# Altium footprint library EMI_FILTER.PcbLib: 28 footprints (part 2 of 2)
Each footprint in its own frame and in the unit in brackets; x right, y up, seen from the top. Pads: shape width x height; smd on the part's side, far side on the other; paste and mask are expansions set on the pad; w line width, h text height; cw(c..) or ccw(c..) is an arc to the next point about the centre after c.
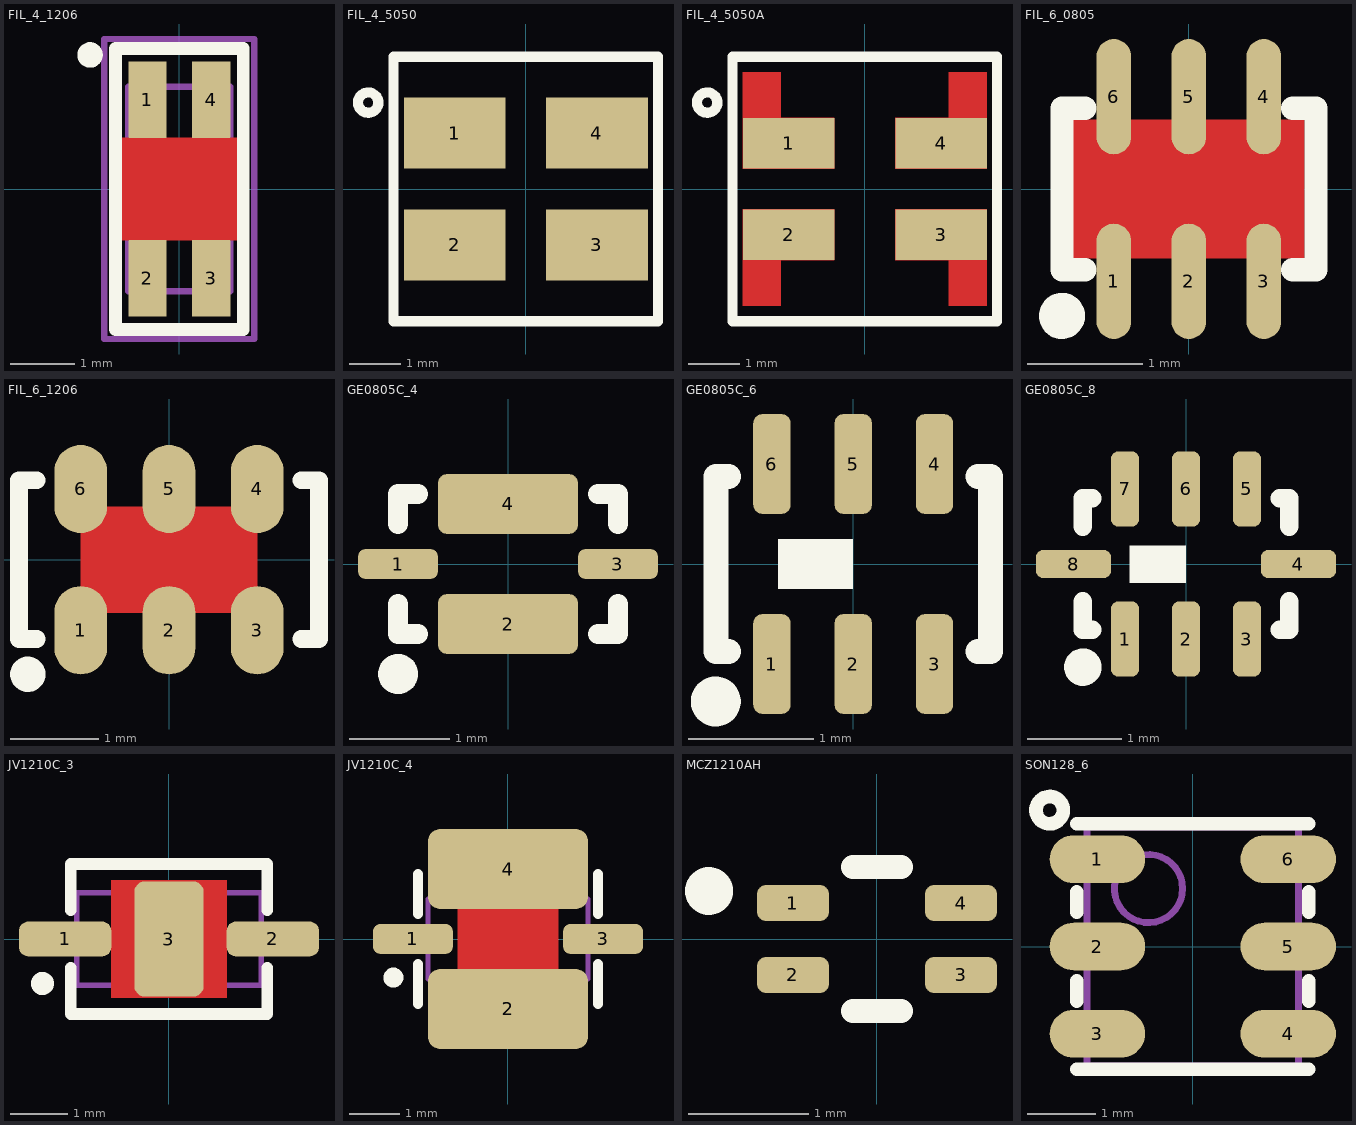
[diagram p1: the footprints below, top view; thin cyan lines are the x and y axes]

## FIL_4_1206 [mm] "transformer LINE FILTER, 4-Leads, Body 3.2x1.6mm"
height 2
pads (4):
  rect 0.6x1.2 smd: 1(-0.5,1.4) 2(-0.5,-1.4) 3(0.5,-1.4) 4(0.5,1.4)
Top Layer:
  pour cut-out: 1,0.8 -1,0.8 -1,-0.8 1,-0.8
Top Overlay:
  circle w0.2: c-1.4,2.1 r0.1
  lines w0.2: -1,-2.2 1,-2.2 1,2.2 -1,2.2 -1,-2.2
Mechanical 13:
  lines w0.1: -0.8,-1.6 -0.8,1.6 0.8,1.6 0.8,-1.6 -0.8,-1.6
Mechanical 15:
  lines w0.1: -0.5,0 0.5,0 ; 0,-0.5 0,0.5 ; -1.175,-2.35 -1.175,2.35 1.175,2.35 1.175,-2.35 -1.175,-2.35
3D body: height 2, standoff 0, extent -0.8,-1.6 0.8,1.6

## FIL_4_5050 [mm] "EMI filter Murata, DLW5x, 5x5mm"
height 2.8
pads (4):
  rect 2x1.4 smd: 1(-1.4,1.1) 2(-1.4,-1.1) 3(1.4,-1.1) 4(1.4,1.1)
Top Overlay:
  circle w0.2: c-3.1,1.7 r0.2
  lines w0.2: -2.6,-2.6 2.6,-2.6 2.6,2.6 -2.6,2.6 -2.6,-2.6
3D body "DLW5BTM251TQ2B--3DModel-STEP-1.STEP": height 2.5, standoff 0, extent -2.5,-2.5 2.5,2.5

## FIL_4_5050A [mm] "EMI filter Murata, DLW5x, 5x5mm"
height 2.8
pads (4):
  rect 1.8x1 smd: 1(-1.5,0.9) 2(-1.5,-0.9) 3(1.5,-0.9) 4(1.5,0.9)
Top Layer:
  region: -2.4,-0.4 -2.4,-2.3 -1.65,-2.3 -1.65,-1.4 -0.6,-1.4 -0.6,-0.4
  region: 2.4,-0.4 2.4,-2.3 1.65,-2.3 1.65,-1.4 0.6,-1.4 0.6,-0.4
  region: 2.4,0.4 2.4,2.3 1.65,2.3 1.65,1.4 0.6,1.4 0.6,0.4
  region: -2.4,0.4 -2.4,2.3 -1.65,2.3 -1.65,1.4 -0.6,1.4 -0.6,0.4
Top Overlay:
  circle w0.2: c-3.1,1.7 r0.2
  lines w0.2: -2.6,-2.6 2.6,-2.6 2.6,2.6 -2.6,2.6 -2.6,-2.6
3D body "DLW5BTM251TQ2B--3DModel-STEP-1.STEP": height 2.5, standoff 0, extent -2.5,-2.5 2.5,2.5

## FIL_6_0805 [mm] "Ceramic Chip Balun, 0805, 6-Lead"
height 2
pads (6):
  oval 0.3x1 smd mask+0.075: 1(-0.65,-0.8) 2(0,-0.8) 3(0.65,-0.8) 4(0.65,0.8) 5(0,0.8) 6(-0.65,0.8)
Top Layer:
  pour cut-out: -1,0.6 1,0.6 1,-0.6 -1,-0.6
Top Overlay:
  circle w0.2: c-1.1,-1.1 r0.1
  lines w0.2: -0.9,-0.7 -1.1,-0.7 -1.1,0.7 -0.9,0.7 ; 0.9,-0.7 1.1,-0.7 1.1,0.7 0.9,0.7
3D body: height 1.05, standoff 1, extent -0.8,-0.175 -0.5,0.175
3D body: height 1.05, standoff 0, extent -0.8,0.35 -0.5,0.65
3D body: height 1.05, standoff 0, extent -0.15,0.35 0.15,0.65
3D body: height 1.05, standoff 0, extent 0.5,0.35 0.8,0.65
3D body: height 1.05, standoff 0, extent 0.5,-0.65 0.8,-0.35
3D body: height 1.05, standoff 0, extent -0.15,-0.65 0.15,-0.35
3D body: height 1, standoff 0.05, extent -1,-0.625 1,0.625
3D body: height 1.05, standoff 0, extent -0.8,-0.65 -0.5,-0.35

## FIL_6_1206 [mm] "Ceramic Chip Balun, 0805, 6-Lead"
height 2
pads (6):
  oval 0.6x1 smd paste-0.05 mask+0.075: 1(-1,-0.8) 2(0,-0.8) 3(1,-0.8) 4(1,0.8) 5(0,0.8) 6(-1,0.8)
Top Layer:
  pour cut-out: -1,0.6 1,0.6 1,-0.6 -1,-0.6
Top Overlay:
  circle w0.2: c-1.6,-1.3 r0.1
  lines w0.2: -1.5,-0.9 -1.7,-0.9 -1.7,0.9 -1.5,0.9 ; 1.5,-0.9 1.7,-0.9 1.7,0.9 1.5,0.9
3D body "User Library-FV1206-1.step": height 0.92, standoff -0.03, extent -1.6,-0.83 1.6,0.83

## GE0805C_4 [mm] "GE0805C-3, GE0805C-5, 2x1.25x0.95mm, 0.65mm pitch"
height 0.95
pads (4):
  rrect50% 0.8x0.3 smd mask+0.05: 1(-1.1,0) 3(1.1,0)
  rrect30% 1.4x0.6 smd mask+0.05: 2(0,-0.6) 4(0,0.6)
Top Overlay:
  circle w0.2: c-1.1,-1.1 r0.1
  lines w0.2: -1.1,-0.4 -1.1,-0.7 -0.9,-0.7 ; -1.1,0.4 -1.1,0.7 -0.9,0.7 ; 0.9,-0.7 1.1,-0.7 1.1,-0.4 ; 0.9,0.7 1.1,0.7 1.1,0.4
3D body "GE0805C-3_MNC.step": height 1.04, standoff 0, extent -1.003,-0.622 1.003,0.622

## GE0805C_6 [mm] "GE0805C-1, GE0805C-9, 2x1.25x0.95mm, 0.65mm pitch"
height 0.95
pads (6):
  rrect50% 0.3x0.8 smd mask+0.05: 1(-0.65,-0.8) 2(0,-0.8) 3(0.65,-0.8) 4(0.65,0.8) 5(0,0.8) 6(-0.65,0.8)
Top Overlay:
  circle w0.2: c-1.1,-1.1 r0.1
  rectangle: -0.6,-0.2 0,0.2
  lines w0.2: -1,-0.7 -1.1,-0.7 -1.1,0.7 -1,0.7 ; 1,-0.7 1.1,-0.7 1.1,0.7 1,0.7
3D body "User Library-GE0805C-2.step": height 0.94, standoff -0.01, extent -1.015,-0.64 1.015,0.64

## GE0805C_8 [mm] "GE0805C-2, GE0805C-4, GE0805C-15, 2x1.25x0.95mm, 0.65mm pitch"
height 0.95
pads (8):
  rrect50% 0.3x0.8 smd mask+0.05: 1(-0.65,-0.8) 2(0,-0.8) 3(0.65,-0.8) 5(0.65,0.8) 6(0,0.8) 7(-0.65,0.8)
  rrect50% 0.8x0.3 smd mask+0.05: 4(1.2,0) 8(-1.2,0)
Top Overlay:
  circle w0.2: c-1.1,-1.1 r0.1
  rectangle: -0.6,-0.2 0,0.2
  lines w0.2: -1.1,-0.4 -1.1,-0.7 -1,-0.7 ; -1.1,0.4 -1.1,0.7 -1,0.7 ; 1,-0.7 1.1,-0.7 1.1,-0.4 ; 1,0.7 1.1,0.7 1.1,0.4
3D body "User Library-GE0805C-2.step": height 0.94, standoff -0.01, extent -1.015,-0.64 1.015,0.64

## JV1210C_3 [mm] "JV1210C, 3.2x2.5x1.5mm"
height 2
pads (3):
  rrect50% 1.6x0.6 smd paste-0.1 mask+0.075: 1(-1.8,0) 2(1.8,0)
  rrect30% 1.2x2 smd paste-0.1 mask+0.075: 3(0,0)
Top Layer:
  pour cut-out: -1,1.016 1,1.016 1,-1.016 -1,-1.016
Top Overlay:
  circle w0.2: c-2.192,-0.771 r0.1
  lines w0.2: -1.7,-0.5 -1.7,-1.3 1.7,-1.3 1.7,-0.5 ; -1.7,0.5 -1.7,1.3 1.7,1.3 1.7,0.5
Mechanical 13:
  lines w0.1: -1.6,-0.8 -1.6,0.8 1.6,0.8 1.6,-0.8 -1.6,-0.8
3D body "JV1210C-2.step": height 1.51, standoff -0.01, extent -1.61,-1.25 1.61,1.25

## JV1210C_4 [mm] "JV1210C, 3.2x2.5x1.5mm"
height 2
pads (4):
  rrect50% 1.6x0.6 smd paste-0.1 mask+0.075: 1(-1.9,0) 3(1.9,0)
  rrect30% 3.2x1.6 smd paste-0.1 mask+0.075: 2(0,-1.4) 4(0,1.4)
Top Layer:
  pour cut-out: -1,1.016 1,1.016 1,-1.016 -1,-1.016
Top Overlay:
  circle w0.2: c-2.292,-0.771 r0.1
  lines w0.2: -1.8,-1.3 -1.8,-0.5 ; -1.8,0.5 -1.8,1.3 ; 1.8,-1.3 1.8,-0.5 ; 1.8,0.5 1.8,1.3
Mechanical 13:
  lines w0.1: -1.6,-0.8 -1.6,0.8 1.6,0.8 1.6,-0.8 -1.6,-0.8
3D body "JV1210C.step": height 1.51, standoff -0.01, extent -1.61,-1.26 1.61,1.26

## MCZ1210AH [mm] "Common Mode Chokes MCZ1210AH 1x1.25mm"
height 0.8
pads (4):
  rrect50% 0.6x0.3 smd mask+0.1: 1(-0.7,0.3) 2(-0.7,-0.3) 3(0.7,-0.3) 4(0.7,0.3)
Top Overlay:
  circle w0.2: c-1.4,0.4 r0.1
  lines w0.2: -0.2,-0.6 0.2,-0.6 ; -0.2,0.6 0.2,0.6
3D body "User Library-MCZ1210AH900L2T.STEP": height 0.51, standoff -0.01, extent -0.633,-0.5 0.633,0.5

## SON128_6 [mm] "SFECF10M7, 3.1X3.45X1.3mm, 1.28mm pitch"
height 1.3
pads (6):
  oval 1.4x0.7 smd paste-0.05: 1(-1.4,1.28) 2(-1.4,0) 3(-1.4,-1.28) 4(1.4,-1.28) 5(1.4,0) 6(1.4,1.28)
Top Overlay:
  circle w0.2: c-2.1,2 r0.2
  lines w0.2: -1.7,-1.8 1.7,-1.8 ; -1.7,-0.8 -1.7,-0.5 ; -1.7,0.5 -1.7,0.8 ; -1.7,1.8 1.7,1.8 ; 1.7,-0.8 1.7,-0.5 ; 1.7,0.5 1.7,0.8
Mechanical 13:
  circle w0.1: c-0.65,0.85 r0.5
  lines w0.1: -1.55,-1.75 1.55,-1.75 1.55,1.75 -1.55,1.75 -1.55,-1.75
3D body "QFN127P600-8N.step": height 1.3, standoff 0, extent -1.551,-1.75 1.551,1.75